# Altium footprint library Inductor_SMD.PcbLib: 259 footprints (part 17 of 17)
Each footprint in its own frame and in the unit in brackets; x right, y up, seen from the top. Pads: shape width x height; smd on the part's side, far side on the other; paste and mask are expansions set on the pad; w line width, h text height; cw(c..) or ccw(c..) is an arc to the next point about the centre after c.
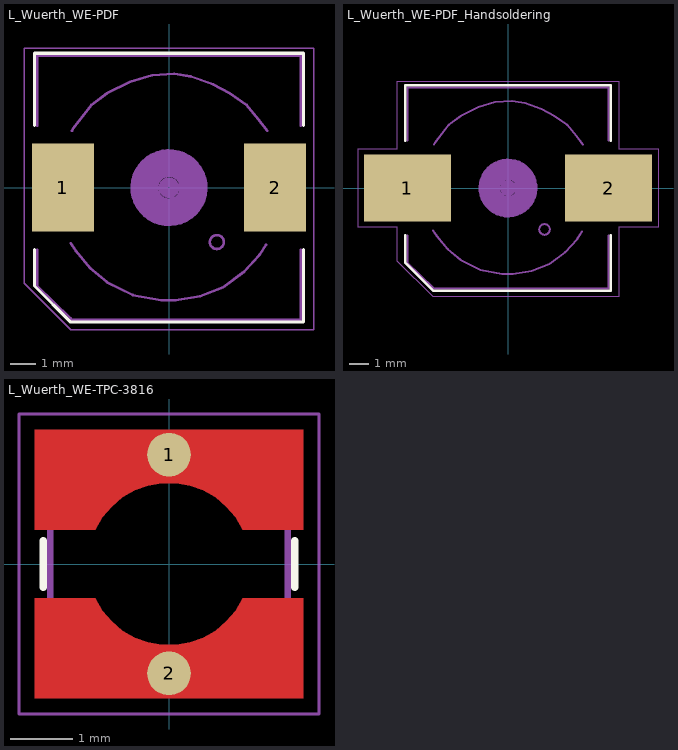
[diagram p16: the footprints below, top view; thin cyan lines are the x and y axes]

## L_Wuerth_WE-PDF [mm]
pads (2):
  rect 2.4x3.4 smd: 1(-4.1,0) 2(4.1,0)
F.SilkS:
  lines w0.12: -5.2,-2.4 -5.2,-3.8 -3.8,-5.2 5.2,-5.2 5.2,-2.4 ; -5.2,2.4 -5.2,5.2 5.2,5.2 5.2,2.4
F.CrtYd:
  lines w0.05: -5.6,-3.7 -3.8,-5.5 5.6,-5.5 5.6,5.4 -5.6,5.4 -5.6,-3.7
F.Fab:
  circle w0.1: c1.85,-2.1 r0.269
  lines w0.1: -5.1,-2.4 -5.1,-3.8 -3.8,-5.05 ; -5.1,2.4 -5.1,5.1 5.1,5.1 5.1,2.4 ; -3.8,-5.1 5.1,-5.1 5.1,-2.4 ; -3.8,-2.15 -3.6,-2.45 -3.05,-3.1 -2.4,-3.65 -1.4,-4.15 -0.3,-4.35 0.25,-4.35 1.2,-4.2 2.1,-3.85 2.9,-3.25 3.5,-2.6 3.75,-2.2 ; -3.75,2.2 -3.7,2.3 -3,3.2 -2.4,3.65 -1.5,4.1 -0.65,4.35 0.2,4.4 0.85,4.3 1.7,4 2.35,3.65 3,3.2 3.45,2.65 3.8,2.2
  text "'.Designator'" at -4.047,-0.84 h1
F.Adhes:
  circle w0.38: c0,0 r0.602
  circle w0.38: c0,0 r1.301
  circle w0.38: c0,0 r0.95
  circle w0.38: c0,0 r0.212

## L_Wuerth_WE-PDF_Handsoldering [mm]
pads (2):
  rect 4.4x3.4 smd: 1(-5.1,0) 2(5.1,0)
F.SilkS:
  lines w0.12: -5.2,-2.4 -5.2,-3.8 -3.8,-5.2 5.2,-5.2 5.2,-2.4 ; -5.2,2.4 -5.2,5.2 5.2,5.2 5.2,2.4
F.CrtYd:
  lines w0.05: -7.6,-2 -5.6,-2 -5.6,-3.7 -3.8,-5.5 5.6,-5.5 5.6,-2 7.6,-2 7.6,2 5.6,2 5.6,5.4 -5.6,5.4 -5.6,2 -7.6,2 -7.6,-2
F.Fab:
  circle w0.1: c1.85,-2.1 r0.269
  lines w0.1: -5.1,-2.4 -5.1,-3.8 -3.8,-5.05 ; -5.1,2.4 -5.1,5.1 5.1,5.1 5.1,2.4 ; -3.8,-5.1 5.1,-5.1 5.1,-2.4 ; -3.8,-2.15 -3.6,-2.45 -3.05,-3.1 -2.4,-3.65 -1.4,-4.15 -0.3,-4.35 0.25,-4.35 1.2,-4.2 2.1,-3.85 2.9,-3.25 3.5,-2.6 3.75,-2.2 ; -3.75,2.2 -3.7,2.3 -3,3.2 -2.4,3.65 -1.5,4.1 -0.65,4.35 0.2,4.4 0.85,4.3 1.7,4 2.35,3.65 3,3.2 3.45,2.65 3.8,2.2
  text "'.Designator'" at -4.047,-0.84 h1
F.Adhes:
  circle w0.38: c0,0 r1.301
  circle w0.38: c0,0 r0.95
  circle w0.38: c0,0 r0.602
  circle w0.38: c0,0 r0.212

## L_Wuerth_WE-TPC-3816 [mm]
pads (2):
  round 0.7 smd: 1(0,1.75) 2(0,-1.75)
F.Cu:
  region: 2.15,0.55 1.178,0.55 1.065,0.746 0.919,0.92 0.745,1.065 0.549,1.178 0.336,1.256 0.113,1.295 -0.113,1.295 -0.336,1.256 -0.549,1.178 -0.745,1.065 -0.919,0.92 -1.065,0.746 -1.178,0.55 -2.15,0.55 -2.15,2.15 2.15,2.15
  region: 2.15,-2.15 -2.15,-2.15 -2.15,-0.55 -1.178,-0.55 -1.065,-0.746 -0.919,-0.92 -0.745,-1.065 -0.549,-1.178 -0.336,-1.256 -0.113,-1.295 0.113,-1.295 0.336,-1.256 0.549,-1.178 0.745,-1.065 0.919,-0.92 1.065,-0.746 1.178,-0.55 2.15,-0.55
F.SilkS:
  lines w0.12: -2.01,-0.37 -2.01,0.37 ; 2.01,-0.37 2.01,0.37
F.Paste:
  region: 2.15,0.55 1.178,0.55 1.065,0.746 0.919,0.92 0.745,1.065 0.549,1.178 0.336,1.256 0.113,1.295 -0.113,1.295 -0.336,1.256 -0.549,1.178 -0.745,1.065 -0.919,0.92 -1.065,0.746 -1.178,0.55 -2.15,0.55 -2.15,2.15 2.15,2.15
  region: 2.15,-2.15 -2.15,-2.15 -2.15,-0.55 -1.178,-0.55 -1.065,-0.746 -0.919,-0.92 -0.745,-1.065 -0.549,-1.178 -0.336,-1.256 -0.113,-1.295 0.113,-1.295 0.336,-1.256 0.549,-1.178 0.745,-1.065 0.919,-0.92 1.065,-0.746 1.178,-0.55 2.15,-0.55
F.Mask:
  region: 2.15,0.55 1.178,0.55 1.065,0.746 0.919,0.92 0.745,1.065 0.549,1.178 0.336,1.256 0.113,1.295 -0.113,1.295 -0.336,1.256 -0.549,1.178 -0.745,1.065 -0.919,0.92 -1.065,0.746 -1.178,0.55 -2.15,0.55 -2.15,2.15 2.15,2.15
  region: 2.15,-2.15 -2.15,-2.15 -2.15,-0.55 -1.178,-0.55 -1.065,-0.746 -0.919,-0.92 -0.745,-1.065 -0.549,-1.178 -0.336,-1.256 -0.113,-1.295 0.113,-1.295 0.336,-1.256 0.549,-1.178 0.745,-1.065 0.919,-0.92 1.065,-0.746 1.178,-0.55 2.15,-0.55
F.CrtYd:
  lines w0.05: -2.4,-2.4 -2.4,2.4 2.4,2.4 2.4,-2.4 -2.4,-2.4
F.Fab:
  lines w0.1: -1.9,-1.9 1.9,-1.9 1.9,1.9 -1.9,1.9 -1.9,-1.9
  text "'.Designator'" at -4.047,-0.84 h1